# Altium schematic symbol library TB006-508-02BE.SchLib: 2 symbols
Pins are listed as number, name and electrical type; pins without a type are passive.

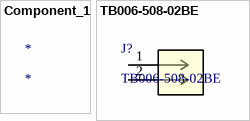
[diagram p0: symbols Component_1 to TB006-508-02BE]

## Component_1
designator *

## TB006-508-02BE
designator J?
No Description Available; Mfr_Name: CUI Devices; Copyright: Copyright (C) 2023 Ultra Librarian. All rights reserved.; Manufacturer_Part_Number: TB006-508-02BE; RefDes: RefDes; Type: DEV
footprint CONN_TB006-508-02_CUD
pins: 1, 2